# Altium footprint library TQFP贴片芯片.PcbLib: 17 footprints (part 1 of 2)
Each footprint in its own frame and in the unit in brackets; x right, y up, seen from the top. Pads: shape width x height; smd on the part's side, far side on the other; paste and mask are expansions set on the pad; w line width, h text height; cw(c..) or ccw(c..) is an arc to the next point about the centre after c.
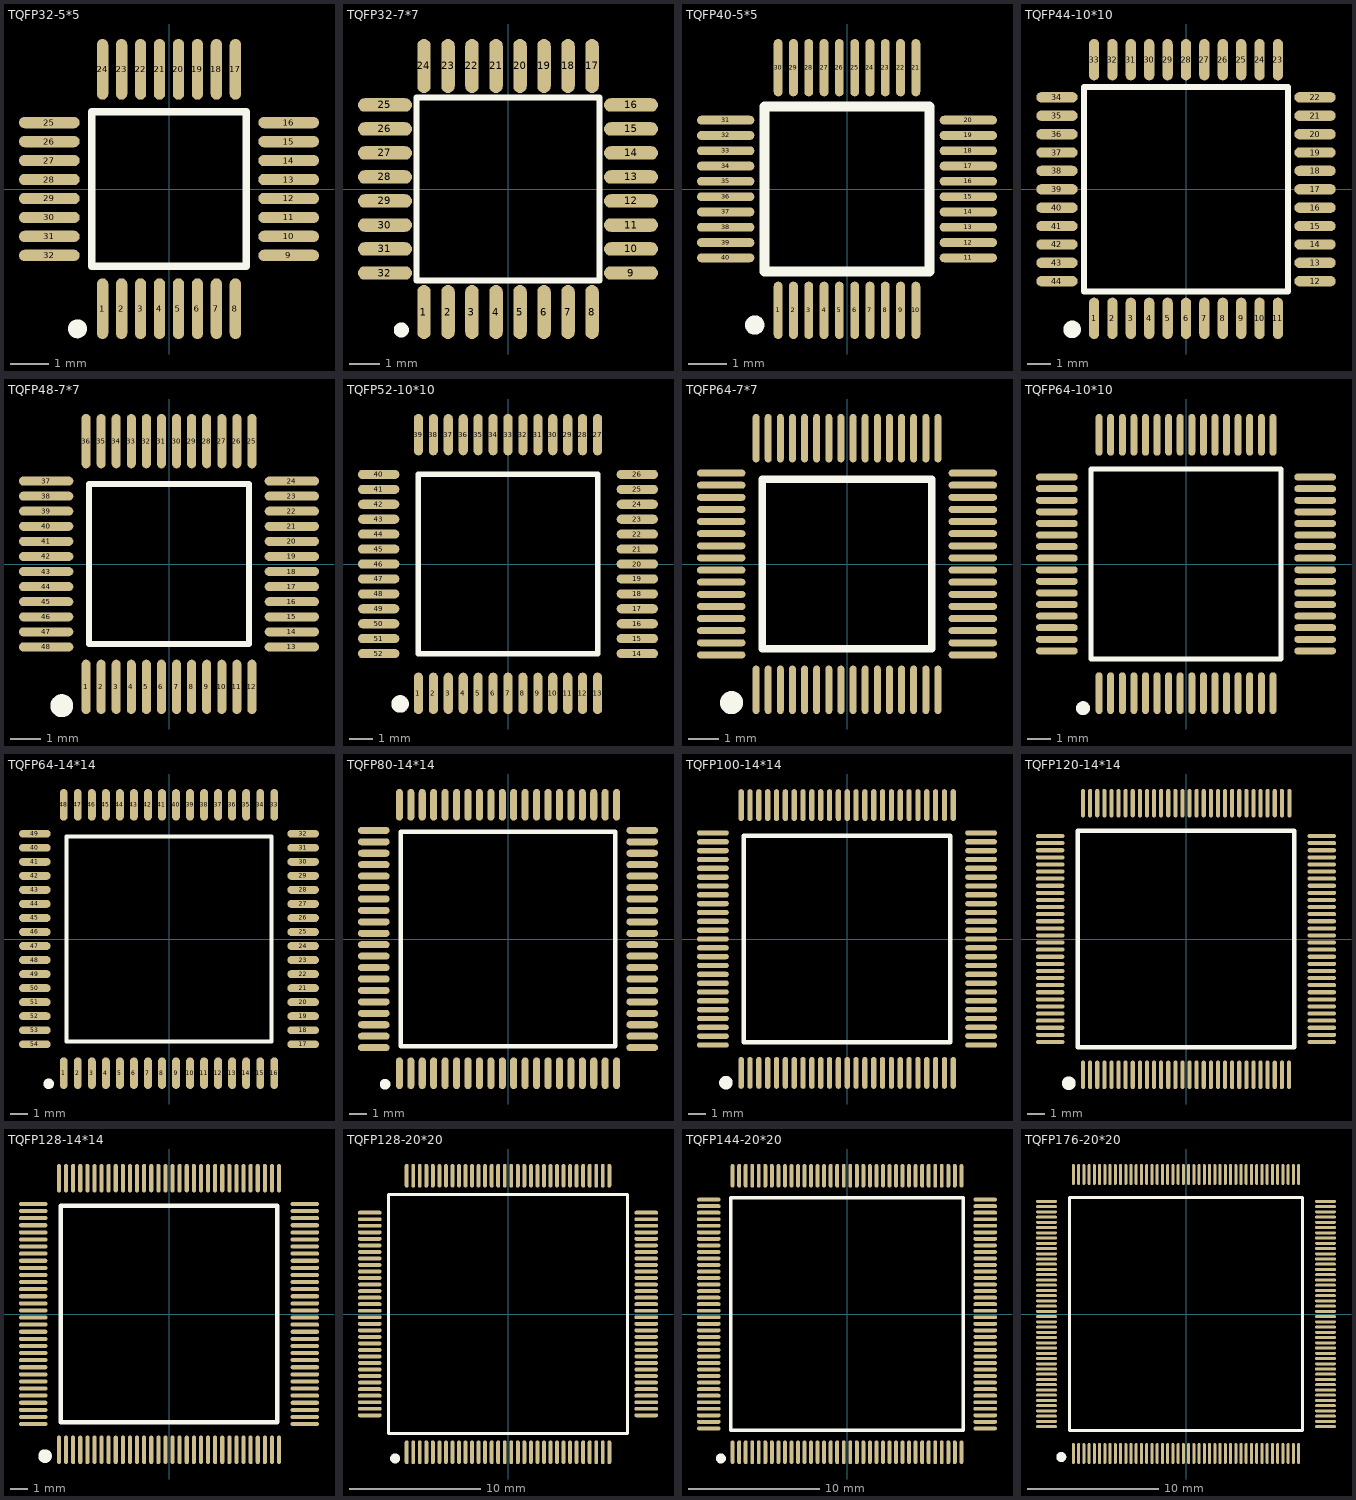
[diagram p0: the footprints below, top view; thin cyan lines are the x and y axes]

## TQFP32-5*5 [mm] "5x5mm, 脚距：0.5mm(蒜米工坊）"
pads (32):
  oval 0.3x1.6 smd: 1(-1.75,-3.152) 2(-1.25,-3.152) 3(-0.75,-3.152) 4(-0.25,-3.152) 5(0.25,-3.152) 6(0.75,-3.152) 7(1.25,-3.152) 8(1.75,-3.152) 17(1.75,3.152) 18(1.25,3.152) 19(0.75,3.152) 20(0.25,3.152) 21(-0.25,3.152) 22(-0.75,3.152) 23(-1.25,3.152) 24(-1.75,3.152)
  oval 1.6x0.3 smd: 9(3.152,-1.75) 10(3.152,-1.25) 11(3.152,-0.75) 12(3.152,-0.25) 13(3.152,0.25) 14(3.152,0.75) 15(3.152,1.25) 16(3.152,1.75) 25(-3.152,1.75) 26(-3.152,1.25) 27(-3.152,0.75) 28(-3.152,0.25) 29(-3.152,-0.25) 30(-3.152,-0.75) 31(-3.152,-1.25) 32(-3.152,-1.75)
Top Overlay:
  circle w0.25: c-2.413,-3.683 r0.125
  lines w0.2: -2.032,-2.032 2.032,-2.032 2.032,2.032 -2.032,2.032 -2.032,-2.032
3D body "TQFP32_5x5.STEP": height 1.05, standoff 0, extent -3.502,-3.502 3.502,3.502

## TQFP32-7*7 [mm] "7x7mm, 0.8mm(蒜米工坊）"
pads (32):
  oval 0.45x1.8 smd: 1(-2.803,-4.1) 2(-2.003,-4.1) 3(-1.203,-4.1) 4(-0.403,-4.1) 5(0.397,-4.1) 6(1.197,-4.1) 7(1.997,-4.1) 8(2.797,-4.1) 17(2.797,4.1) 18(1.997,4.1) 19(1.197,4.1) 20(0.397,4.1) 21(-0.403,4.1) 22(-1.203,4.1) 23(-2.003,4.1) 24(-2.803,4.1)
  oval 1.8x0.45 smd: 9(4.097,-2.8) 10(4.097,-2) 11(4.097,-1.2) 12(4.097,-0.4) 13(4.097,0.4) 14(4.097,1.2) 15(4.097,2) 16(4.097,2.8) 25(-4.103,2.8) 26(-4.103,2) 27(-4.103,1.2) 28(-4.103,0.4) 29(-4.103,-0.4) 30(-4.103,-1.2) 31(-4.103,-2) 32(-4.103,-2.8)
Top Overlay:
  circle w0.25: c-3.556,-4.699 r0.125
  lines w0.2: -3.048,-3.048 -3.048,3.048 3.048,3.048 3.048,-3.048 -3.048,-3.048
3D body "TQFP32_7x7.STEP": height 1.05, standoff 0, extent -4.502,-4.502 4.502,4.502

## TQFP40-5*5 [mm] "5x5mm, 0.4mm(蒜米工坊）"
pads (40):
  oval 0.23x1.5 smd: 1(-1.8,-3.171) 2(-1.4,-3.171) 3(-1,-3.171) 4(-0.6,-3.171) 5(-0.2,-3.171) 6(0.2,-3.171) 7(0.6,-3.171) 8(1,-3.171) 9(1.4,-3.171) 10(1.8,-3.171) 21(1.8,3.171) 22(1.4,3.171) 23(1,3.171) 24(0.6,3.171) 25(0.2,3.171) 26(-0.2,3.171) 27(-0.6,3.171) 28(-1,3.171) 29(-1.4,3.171) 30(-1.8,3.171)
  oval 1.5x0.23 smd: 11(3.171,-1.8) 12(3.171,-1.4) 13(3.171,-1) 14(3.171,-0.6) 15(3.171,-0.2) 16(3.171,0.2) 17(3.171,0.6) 18(3.171,1) 19(3.171,1.4) 20(3.171,1.8) 31(-3.171,1.8) 32(-3.171,1.4) 33(-3.171,1) 34(-3.171,0.6) 35(-3.171,0.2) 36(-3.171,-0.2) 37(-3.171,-0.6) 38(-3.171,-1) 39(-3.171,-1.4) 40(-3.171,-1.8)
Top Overlay:
  circle w0.254: c-2.413,-3.556 r0.127
  lines w0.254: -2.159,-2.159 -2.159,2.159 2.159,2.159 2.159,-2.159 -2.159,-2.159
3D body "TQFP40_5x5.STEP": height 1.05, standoff 0, extent -3.502,-3.502 3.502,3.502

## TQFP44-10*10 [mm] "10x10mm, 0.8mm(蒜米工坊）"
pads (44):
  oval 0.45x1.8 smd: 1(-4,-5.613) 2(-3.2,-5.613) 3(-2.4,-5.613) 4(-1.6,-5.613) 5(-0.8,-5.613) 6(0,-5.613) 7(0.8,-5.613) 8(1.6,-5.613) 9(2.4,-5.613) 10(3.2,-5.613) 11(4,-5.613) 23(4,5.639) 24(3.2,5.639) 25(2.4,5.639) 26(1.6,5.639) 27(0.8,5.639) 28(0,5.639) 29(-0.8,5.639) 30(-1.6,5.639) 31(-2.4,5.639) 32(-3.2,5.639) 33(-4,5.639)
  oval 1.8x0.45 smd: 12(5.613,-4) 13(5.613,-3.2) 14(5.613,-2.4) 15(5.613,-1.6) 16(5.613,-0.8) 17(5.613,0) 18(5.613,0.8) 19(5.613,1.6) 20(5.613,2.4) 21(5.613,3.2) 22(5.613,4) 34(-5.613,4) 35(-5.613,3.2) 36(-5.613,2.4) 37(-5.613,1.6) 38(-5.613,0.8) 39(-5.613,0) 40(-5.613,-0.8) 41(-5.613,-1.6) 42(-5.613,-2.4) 43(-5.613,-3.2) 44(-5.613,-4)
Top Overlay:
  circle w0.508: c-4.953,-6.096 r0.127
  lines w0.254: -4.445,-4.445 -4.445,4.445 4.445,4.445 4.445,-4.445 -4.445,-4.445
3D body "TQFP44_10x10.STEP": height 1.05, standoff 0, extent -6.002,-6.002 6.002,6.002

## TQFP48-7*7 [mm] "7x7mm, 0.5mm(蒜米工坊）"
pads (48):
  oval 0.3x1.8 smd: 1(-2.75,-4.073) 2(-2.25,-4.073) 3(-1.75,-4.073) 4(-1.25,-4.073) 5(-0.75,-4.073) 6(-0.25,-4.073) 7(0.25,-4.073) 8(0.75,-4.073) 9(1.25,-4.073) 10(1.75,-4.073) 11(2.25,-4.073) 12(2.75,-4.073) 25(2.75,4.073) 26(2.25,4.073) 27(1.75,4.073) 28(1.25,4.073) 29(0.75,4.073) 30(0.25,4.073) 31(-0.25,4.073) 32(-0.75,4.073) 33(-1.25,4.073) 34(-1.75,4.073) 35(-2.25,4.073) 36(-2.75,4.073)
  oval 1.8x0.3 smd: 13(4.073,-2.75) 14(4.073,-2.25) 15(4.073,-1.75) 16(4.073,-1.25) 17(4.073,-0.75) 18(4.073,-0.25) 19(4.073,0.25) 20(4.073,0.75) 21(4.073,1.25) 22(4.073,1.75) 23(4.073,2.25) 24(4.073,2.75) 37(-4.073,2.75) 38(-4.073,2.25) 39(-4.073,1.75) 40(-4.073,1.25) 41(-4.073,0.75) 42(-4.073,0.25) 43(-4.073,-0.25) 44(-4.073,-0.75) 45(-4.073,-1.25) 46(-4.073,-1.75) 47(-4.073,-2.25) 48(-4.073,-2.75)
Top Overlay:
  circle w0.508: c-3.556,-4.699 r0.127
  lines w0.2: -2.65,-2.65 2.65,-2.65 2.65,2.65 -2.65,2.65 -2.65,-2.65
3D body "TQFP48_7x7.STEP": height 1.05, standoff 0, extent -4.502,-4.502 4.502,4.502

## TQFP52-10*10 [mm] "10x10mm, 0.65mm(蒜米工坊）"
pads (52):
  oval 0.4x1.8 smd: 1(-3.9,-5.632) 2(-3.25,-5.632) 3(-2.6,-5.632) 4(-1.95,-5.632) 5(-1.3,-5.632) 6(-0.65,-5.632) 7(0,-5.632) 8(0.65,-5.632) 9(1.3,-5.632) 10(1.95,-5.632) 11(2.6,-5.632) 12(3.25,-5.632) 13(3.9,-5.632) 27(3.9,5.632) 28(3.25,5.632) 29(2.6,5.632) 30(1.95,5.632) 31(1.3,5.632) 32(0.65,5.632) 33(0,5.632) 34(-0.65,5.632) 35(-1.3,5.632) 36(-1.95,5.632) 37(-2.6,5.632) 38(-3.25,5.632) 39(-3.9,5.632)
  oval 1.8x0.4 smd: 14(5.632,-3.9) 15(5.632,-3.25) 16(5.632,-2.6) 17(5.632,-1.95) 18(5.632,-1.3) 19(5.632,-0.65) 20(5.632,0) 21(5.632,0.65) 22(5.632,1.3) 23(5.632,1.95) 24(5.632,2.6) 25(5.632,3.25) 26(5.632,3.9) 40(-5.632,3.9) 41(-5.632,3.25) 42(-5.632,2.6) 43(-5.632,1.95) 44(-5.632,1.3) 45(-5.632,0.65) 46(-5.632,0) 47(-5.632,-0.65) 48(-5.632,-1.3) 49(-5.632,-1.95) 50(-5.632,-2.6) 51(-5.632,-3.25) 52(-5.632,-3.9)
Top Overlay:
  circle w0.508: c-4.699,-6.096 r0.127
  lines w0.254: -3.912,-3.912 3.912,-3.912 3.912,3.912 -3.912,3.912 -3.912,-3.912
3D body "TQFP52_10x10.STEP": height 1.05, standoff 0, extent -6.002,-6.002 6.002,6.002

## TQFP64-7*7 [mm] "7x7mm, 0.4mm(蒜米工坊）"
pads (64):
  oval 0.23x1.6 smd: 1(-3,-4.146) 2(-2.6,-4.146) 3(-2.2,-4.146) 4(-1.8,-4.146) 5(-1.4,-4.146) 6(-1,-4.146) 7(-0.6,-4.146) 8(-0.2,-4.146) 9(0.2,-4.146) 10(0.6,-4.146) 11(1,-4.146) 12(1.4,-4.146) 13(1.8,-4.146) 14(2.2,-4.146) 15(2.6,-4.146) 16(3,-4.146) 33(3,4.152) 34(2.6,4.152) 35(2.2,4.152) 36(1.8,4.152) 37(1.4,4.152) 38(1,4.152) 39(0.6,4.152) 40(0.2,4.152) 41(-0.2,4.152) 42(-0.6,4.152) 43(-1,4.152) 44(-1.4,4.152) 45(-1.8,4.152) 46(-2.2,4.152) 47(-2.6,4.152) 48(-3,4.152)
  oval 1.6x0.23 smd: 17(4.149,-2.997) 18(4.149,-2.597) 19(4.149,-2.197) 20(4.149,-1.797) 21(4.149,-1.397) 22(4.149,-0.997) 23(4.149,-0.597) 24(4.149,-0.197) 25(4.149,0.203) 26(4.149,0.603) 27(4.149,1.003) 28(4.149,1.403) 29(4.149,1.803) 30(4.149,2.203) 31(4.149,2.603) 32(4.149,3.003) 49(-4.149,3.003) 50(-4.149,2.603) 51(-4.149,2.203) 52(-4.149,1.803) 53(-4.149,1.403) 54(-4.149,1.003) 55(-4.149,0.603) 56(-4.149,0.203) 57(-4.149,-0.197) 58(-4.149,-0.597) 59(-4.149,-0.997) 60(-4.149,-1.397) 61(-4.149,-1.797) 62(-4.149,-2.197) 63(-4.149,-2.597) 64(-4.149,-2.997)
Top Overlay:
  circle w0.508: c-3.81,-4.572 r0.127
  lines w0.254: -2.794,-2.791 2.794,-2.791 2.794,2.797 -2.794,2.797 -2.794,-2.791
3D body "TQFP64_7x7.STEP": height 1.05, standoff 0, extent -4.502,-4.502 4.502,4.502

## TQFP64-10*10 [mm] "10x10mm, 0.5mm(蒜米工坊）"
pads (64):
  oval 0.3x1.8 smd: 1(-3.75,-5.574) 2(-3.25,-5.574) 3(-2.75,-5.574) 4(-2.25,-5.574) 5(-1.75,-5.574) 6(-1.25,-5.574) 7(-0.75,-5.574) 8(-0.25,-5.574) 9(0.25,-5.574) 10(0.75,-5.574) 11(1.25,-5.574) 12(1.75,-5.574) 13(2.25,-5.574) 14(2.75,-5.574) 15(3.25,-5.574) 16(3.75,-5.574) 33(3.75,5.574) 34(3.25,5.574) 35(2.75,5.574) 36(2.25,5.574) 37(1.75,5.574) 38(1.25,5.574) 39(0.75,5.574) 40(0.25,5.574) 41(-0.25,5.574) 42(-0.75,5.574) 43(-1.25,5.574) 44(-1.75,5.574) 45(-2.25,5.574) 46(-2.75,5.574) 47(-3.25,5.574) 48(-3.75,5.574)
  oval 1.8x0.3 smd: 17(5.574,-3.75) 18(5.574,-3.25) 19(5.574,-2.75) 20(5.574,-2.25) 21(5.574,-1.75) 22(5.574,-1.25) 23(5.574,-0.75) 24(5.574,-0.25) 25(5.574,0.25) 26(5.574,0.75) 27(5.574,1.25) 28(5.574,1.75) 29(5.574,2.25) 30(5.574,2.75) 31(5.574,3.25) 32(5.574,3.75) 49(-5.574,3.75) 50(-5.574,3.25) 51(-5.574,2.75) 52(-5.574,2.25) 53(-5.574,1.75) 54(-5.574,1.25) 55(-5.574,0.75) 56(-5.574,0.25) 57(-5.574,-0.25) 58(-5.574,-0.75) 59(-5.574,-1.25) 60(-5.574,-1.75) 61(-5.574,-2.25) 62(-5.574,-2.75) 63(-5.574,-3.25) 64(-5.574,-3.75)
Top Overlay:
  circle w0.35: c-4.445,-6.223 r0.125
  lines w0.2: -4.1,-4.1 -4.1,4.1 4.1,4.1 4.1,-4.1 -4.1,-4.1
3D body "TQFP64_10x10.STEP": height 1.05, standoff 0, extent -6.002,-6.002 6.002,6.002

## TQFP64-14*14 [mm] "14x14mm, 0.8mm(蒜米工坊）"
pads (64):
  oval 0.45x1.8 smd: 1(-6,-7.651) 2(-5.2,-7.651) 3(-4.4,-7.651) 4(-3.6,-7.651) 5(-2.8,-7.651) 6(-2,-7.651) 7(-1.2,-7.651) 8(-0.4,-7.651) 9(0.4,-7.651) 10(1.2,-7.651) 11(2,-7.651) 12(2.8,-7.651) 13(3.6,-7.651) 14(4.4,-7.651) 15(5.2,-7.651) 16(6,-7.651) 33(6,7.651) 34(5.2,7.651) 35(4.4,7.651) 36(3.6,7.651) 37(2.8,7.651) 38(2,7.651) 39(1.2,7.651) 40(0.4,7.651) 41(-0.4,7.651) 42(-1.2,7.651) 43(-2,7.651) 44(-2.8,7.651) 45(-3.6,7.651) 46(-4.4,7.651) 47(-5.2,7.651) 48(-6,7.651)
  oval 1.8x0.45 smd: 17(7.651,-6) 18(7.651,-5.2) 19(7.651,-4.4) 20(7.651,-3.6) 21(7.651,-2.8) 22(7.651,-2) 23(7.651,-1.2) 24(7.651,-0.4) 25(7.651,0.4) 26(7.651,1.2) 27(7.651,2) 28(7.651,2.8) 29(7.651,3.6) 30(7.651,4.4) 31(7.651,5.2) 32(7.651,6) 40(-7.651,5.2) 41(-7.651,4.4) 42(-7.651,3.6) 43(-7.651,2.8) 44(-7.651,2) 45(-7.651,1.2) 46(-7.651,0.4) 47(-7.651,-0.4) 48(-7.651,-1.2) 49(-7.651,-2) 49(-7.651,6) 50(-7.651,-2.8) 51(-7.651,-3.6) 52(-7.651,-4.4) 53(-7.651,-5.2) 54(-7.651,-6)
Top Overlay:
  circle w0.35: c-6.858,-8.255 r0.125
  lines w0.254: -5.842,-5.842 -5.842,5.842 5.842,5.842 5.842,-5.842 -5.842,-5.842
3D body "TQFP64_14x14.STEP": height 1.05, standoff 0, extent -8.002,-8.002 8.002,8.002

## TQFP80-14*14 [mm] "14x14mm, 0.65mm(蒜米工坊）"
pads (80):
  oval 0.4x1.8 smd: 1(-6.175,-7.625) 2(-5.525,-7.625) 3(-4.875,-7.625) 4(-4.225,-7.625) 5(-3.575,-7.625) 6(-2.925,-7.625) 7(-2.275,-7.625) 8(-1.625,-7.625) 9(-0.975,-7.625) 10(-0.325,-7.625) 11(0.325,-7.625) 12(0.975,-7.625) 13(1.625,-7.625) 14(2.275,-7.625) 15(2.925,-7.625) 16(3.575,-7.625) 17(4.225,-7.625) 18(4.875,-7.625) 19(5.525,-7.625) 20(6.175,-7.625) 41(6.175,7.63) 42(5.525,7.63) 43(4.875,7.63) 44(4.225,7.63) 45(3.575,7.63) 46(2.925,7.63) 47(2.275,7.63) 48(1.625,7.63) 49(0.975,7.63) 50(0.325,7.63) 51(-0.325,7.63) 52(-0.975,7.63) 53(-1.625,7.63) 54(-2.275,7.63) 55(-2.925,7.63) 56(-3.575,7.63) 57(-4.225,7.63) 58(-4.875,7.63) 59(-5.525,7.63) 60(-6.175,7.63)
  oval 1.8x0.4 smd: 21(7.627,-6.172) 22(7.627,-5.522) 23(7.627,-4.872) 24(7.627,-4.222) 25(7.627,-3.572) 26(7.627,-2.922) 27(7.627,-2.272) 28(7.627,-1.622) 29(7.627,-0.972) 30(7.627,-0.322) 31(7.627,0.328) 32(7.627,0.978) 33(7.627,1.628) 34(7.627,2.278) 35(7.627,2.928) 36(7.627,3.578) 37(7.627,4.228) 38(7.627,4.878) 39(7.627,5.528) 40(7.627,6.178) 61(-7.627,6.178) 62(-7.627,5.528) 63(-7.627,4.878) 64(-7.627,4.228) 65(-7.627,3.578) 66(-7.627,2.928) 67(-7.627,2.278) 68(-7.627,1.628) 69(-7.627,0.978) 70(-7.627,0.328) 71(-7.627,-0.322) 72(-7.627,-0.972) 73(-7.627,-1.622) 74(-7.627,-2.272) 75(-7.627,-2.922) 76(-7.627,-3.572) 77(-7.627,-4.222) 78(-7.627,-4.872) 79(-7.627,-5.522) 80(-7.627,-6.172)
Top Overlay:
  circle w0.35: c-6.985,-8.255 r0.125
  lines w0.254: -6.096,-6.096 6.096,-6.096 6.096,6.096 -6.096,6.096 -6.096,-6.096
3D body "TQFP80_14x14.STEP": height 1.05, standoff 0, extent -8.002,-8.002 8.002,8.002

## TQFP100-14*14 [mm] "14x14mm, 0.5mm(蒜米工坊）"
pads (100):
  oval 0.3x1.8 smd: 1(-5.995,-7.575) 2(-5.495,-7.575) 3(-4.995,-7.575) 4(-4.495,-7.575) 5(-3.995,-7.575) 6(-3.495,-7.575) 7(-2.995,-7.575) 8(-2.495,-7.575) 9(-1.995,-7.575) 10(-1.495,-7.575) 11(-0.995,-7.575) 12(-0.495,-7.575) 13(0.005,-7.575) 14(0.505,-7.575) 15(1.005,-7.575) 16(1.505,-7.575) 17(2.005,-7.575) 18(2.505,-7.575) 19(3.005,-7.575) 20(3.505,-7.575) 21(4.005,-7.575) 22(4.505,-7.575) 23(5.005,-7.575) 24(5.505,-7.575) 25(6.005,-7.575) 51(6.005,7.575) 52(5.505,7.575) 53(5.005,7.575) 54(4.505,7.575) 55(4.005,7.575) 56(3.505,7.575) 57(3.005,7.575) 58(2.505,7.575) 59(2.005,7.575) 60(1.505,7.575) 61(1.005,7.575) 62(0.505,7.575) 63(0.005,7.575) 64(-0.495,7.575) 65(-0.995,7.575) 66(-1.495,7.575) 67(-1.995,7.575) 68(-2.495,7.575) 69(-2.995,7.575) 70(-3.495,7.575) 71(-3.995,7.575) 72(-4.495,7.575) 73(-4.995,7.575) 74(-5.495,7.575) 75(-5.995,7.575)
  oval 1.8x0.3 smd: 26(7.58,-6) 27(7.58,-5.5) 28(7.58,-5) 29(7.58,-4.5) 30(7.58,-4) 31(7.58,-3.5) 32(7.58,-3) 33(7.58,-2.5) 34(7.58,-2) 35(7.58,-1.5) 36(7.58,-1) 37(7.58,-0.5) 38(7.58,0) 39(7.58,0.5) 40(7.58,1) 41(7.58,1.5) 42(7.58,2) 43(7.58,2.5) 44(7.58,3) 45(7.58,3.5) 46(7.58,4) 47(7.58,4.5) 48(7.58,5) 49(7.58,5.5) 50(7.58,6) 76(-7.595,6) 77(-7.595,5.5) 78(-7.595,5) 79(-7.595,4.5) 80(-7.595,4) 81(-7.595,3.5) 82(-7.595,3) 83(-7.595,2.5) 84(-7.595,2) 85(-7.595,1.5) 86(-7.595,1) 87(-7.595,0.5) 88(-7.595,0) 89(-7.595,-0.5) 90(-7.595,-1) 91(-7.595,-1.5) 92(-7.595,-2) 93(-7.595,-2.5) 94(-7.595,-3) 95(-7.595,-3.5) 96(-7.595,-4) 97(-7.595,-4.5) 98(-7.595,-5) 99(-7.595,-5.5) 100(-7.595,-6)
Top Overlay:
  circle w0.508: c-6.858,-8.128 r0.127
  lines w0.254: -5.837,-5.842 -5.837,5.842 5.847,5.842 5.847,-5.842 -5.837,-5.842
3D body "TQFP100_14x14.STEP": height 1.05, standoff 0, extent -8.002,-8.002 8.002,8.002

## TQFP120-14*14 [mm] "14x14mm, 0.4mm(蒜米工坊）"
pads (120):
  oval 0.23x1.6 smd: 1(-5.8,-7.651) 2(-5.4,-7.651) 3(-5,-7.651) 4(-4.6,-7.651) 5(-4.2,-7.651) 6(-3.8,-7.651) 7(-3.4,-7.651) 8(-3,-7.651) 9(-2.6,-7.651) 10(-2.2,-7.651) 11(-1.8,-7.651) 12(-1.4,-7.651) 13(-1,-7.651) 14(-0.6,-7.651) 15(-0.2,-7.651) 16(0.2,-7.651) 17(0.6,-7.651) 18(1,-7.651) 19(1.4,-7.651) 20(1.8,-7.651) 21(2.2,-7.651) 22(2.6,-7.651) 23(3,-7.651) 24(3.4,-7.651) 25(3.8,-7.651) 26(4.2,-7.651) 27(4.6,-7.651) 28(5,-7.651) 29(5.4,-7.651) 30(5.8,-7.651) 61(5.825,7.651) 62(5.4,7.651) 63(5,7.651) 64(4.6,7.651) 65(4.2,7.651) 66(3.8,7.651) 67(3.4,7.651) 68(3,7.651) 69(2.6,7.651) 70(2.2,7.651) 71(1.8,7.651) 72(1.4,7.651) 73(1,7.651) 74(0.6,7.651) 75(0.2,7.651) 76(-0.2,7.651) 77(-0.6,7.651) 78(-1,7.651) 79(-1.4,7.651) 80(-1.8,7.651) 81(-2.2,7.651) 82(-2.6,7.651) 83(-3,7.651) 84(-3.4,7.651) 85(-3.8,7.651) 86(-4.2,7.651) 87(-4.6,7.651) 88(-5,7.651) 89(-5.4,7.651) 90(-5.8,7.651)
  oval 1.6x0.23 smd: 31(7.651,-5.8) 32(7.651,-5.4) 33(7.651,-5) 34(7.651,-4.6) 35(7.651,-4.2) 36(7.651,-3.8) 37(7.651,-3.4) 38(7.651,-3) 39(7.651,-2.6) 40(7.651,-2.2) 41(7.651,-1.8) 42(7.651,-1.4) 43(7.651,-1) 44(7.651,-0.6) 45(7.651,-0.2) 46(7.651,0.2) 47(7.651,0.6) 48(7.651,1) 49(7.651,1.4) 50(7.651,1.8) 51(7.651,2.2) 52(7.651,2.6) 53(7.651,3) 54(7.651,3.4) 55(7.651,3.8) 56(7.651,4.2) 57(7.651,4.6) 58(7.651,5) 59(7.651,5.4) 60(7.651,5.8) 91(-7.651,5.8) 92(-7.651,5.4) 93(-7.651,5) 94(-7.651,4.6) 95(-7.651,4.2) 96(-7.651,3.8) 97(-7.651,3.4) 98(-7.651,3) 99(-7.651,2.6) 100(-7.651,2.2) 101(-7.651,1.8) 102(-7.651,1.4) 103(-7.651,1) 104(-7.651,0.6) 105(-7.651,0.2) 106(-7.651,-0.2) 107(-7.651,-0.6) 108(-7.651,-1) 109(-7.651,-1.4) 110(-7.651,-1.8) 111(-7.651,-2.2) 112(-7.651,-2.6) 113(-7.651,-3) 114(-7.651,-3.4) 115(-7.651,-3.8) 116(-7.651,-4.2) 117(-7.651,-4.6) 118(-7.651,-5) 119(-7.651,-5.4) 120(-7.651,-5.8)
Top Overlay:
  circle w0.508: c-6.604,-8.128 r0.127
  lines w0.254: -6.096,-6.096 -6.096,6.096 6.096,6.096 6.096,-6.096 -6.096,-6.096
3D body "TQFP120_14x14.STEP": height 1.05, standoff 0, extent -8.002,-8.002 8.002,8.002

## TQFP128-14*14 [mm] "14x14mm, 0.4mm(蒜米工坊）"
pads (128):
  oval 0.23x1.6 smd: 1(-6.2,-7.648) 2(-5.8,-7.648) 3(-5.4,-7.648) 4(-5,-7.648) 5(-4.6,-7.648) 6(-4.2,-7.648) 7(-3.8,-7.648) 8(-3.4,-7.648) 9(-3,-7.648) 10(-2.6,-7.648) 11(-2.2,-7.648) 12(-1.8,-7.648) 13(-1.4,-7.648) 14(-1,-7.648) 15(-0.6,-7.648) 16(-0.2,-7.648) 17(0.2,-7.648) 18(0.6,-7.648) 19(1,-7.648) 20(1.4,-7.648) 21(1.8,-7.648) 22(2.2,-7.648) 23(2.6,-7.648) 24(3,-7.648) 25(3.4,-7.648) 26(3.8,-7.648) 27(4.2,-7.648) 28(4.6,-7.648) 29(5,-7.648) 30(5.4,-7.648) 31(5.8,-7.648) 32(6.2,-7.648) 65(6.2,7.653) 66(5.8,7.653) 67(5.4,7.653) 68(5,7.653) 69(4.6,7.653) 70(4.2,7.653) 71(3.8,7.653) 72(3.4,7.653) 73(3,7.653) 74(2.6,7.653) 75(2.2,7.653) 76(1.8,7.653) 77(1.4,7.653) 78(1,7.653) 79(0.6,7.653) 80(0.2,7.653) 81(-0.2,7.653) 82(-0.6,7.653) 83(-1,7.653) 84(-1.4,7.653) 85(-1.8,7.653) 86(-2.2,7.653) 87(-2.6,7.653) 88(-3,7.653) 89(-3.4,7.653) 90(-3.8,7.653) 91(-4.2,7.653) 92(-4.6,7.653) 93(-5,7.653) 94(-5.4,7.653) 95(-5.8,7.653) 96(-6.2,7.653)
  oval 1.6x0.23 smd: 33(7.651,-6.198) 34(7.651,-5.798) 35(7.651,-5.398) 36(7.651,-4.998) 37(7.651,-4.598) 38(7.651,-4.198) 39(7.651,-3.798) 40(7.651,-3.398) 41(7.651,-2.998) 42(7.651,-2.598) 43(7.651,-2.198) 44(7.651,-1.798) 45(7.651,-1.398) 46(7.651,-0.998) 47(7.651,-0.598) 48(7.651,-0.198) 49(7.651,0.202) 50(7.651,0.602) 51(7.651,1.002) 52(7.651,1.402) 53(7.651,1.802) 54(7.651,2.202) 55(7.651,2.602) 56(7.651,3.002) 57(7.651,3.402) 58(7.651,3.802) 59(7.651,4.202) 60(7.651,4.602) 61(7.651,5.002) 62(7.651,5.402) 63(7.651,5.802) 64(7.651,6.202) 97(-7.651,6.202) 98(-7.651,5.802) 99(-7.651,5.402) 100(-7.651,5.002) 101(-7.651,4.602) 102(-7.651,4.202) 103(-7.651,3.802) 104(-7.651,3.402) 105(-7.651,3.002) 106(-7.651,2.602) 107(-7.651,2.202) 108(-7.651,1.802) 109(-7.651,1.402) 110(-7.651,1.002) 111(-7.651,0.602) 112(-7.651,0.202) 113(-7.651,-0.198) 114(-7.651,-0.598) 115(-7.651,-0.998) 116(-7.651,-1.398) 117(-7.651,-1.798) 118(-7.651,-2.198) 119(-7.651,-2.598) 120(-7.651,-2.998) 121(-7.651,-3.398) 122(-7.651,-3.798) 123(-7.651,-4.198) 124(-7.651,-4.598) 125(-7.651,-4.998) 126(-7.651,-5.398) 127(-7.651,-5.798) 128(-7.651,-6.198)
Top Overlay:
  circle w0.508: c-6.985,-8.001 r0.127
  lines w0.254: -6.096,-6.094 -6.096,6.098 6.096,6.098 6.096,-6.094 -6.096,-6.094
3D body "TQFP128_14x14.STEP": height 1.05, standoff 0, extent -8.002,-8.002 8.002,8.002

## TQFP128-20*20 [mm] "20x20mm, 0.5mm(蒜米工坊）"
pads (128):
  oval 0.3x1.8 smd: 1(-7.75,-10.576) 2(-7.25,-10.576) 3(-6.75,-10.576) 4(-6.25,-10.576) 5(-5.75,-10.576) 6(-5.25,-10.576) 7(-4.75,-10.576) 8(-4.25,-10.576) 9(-3.75,-10.576) 10(-3.25,-10.576) 11(-2.75,-10.576) 12(-2.25,-10.576) 13(-1.75,-10.576) 14(-1.25,-10.576) 15(-0.75,-10.576) 16(-0.25,-10.576) 17(0.25,-10.576) 18(0.75,-10.576) 19(1.25,-10.576) 20(1.75,-10.576) 21(2.25,-10.576) 22(2.75,-10.576) 23(3.25,-10.576) 24(3.75,-10.576) 25(4.25,-10.576) 26(4.75,-10.576) 27(5.25,-10.576) 28(5.75,-10.576) 29(6.25,-10.576) 30(6.75,-10.576) 31(7.25,-10.576) 32(7.75,-10.576) 65(7.75,10.576) 66(7.25,10.576) 67(6.75,10.576) 68(6.25,10.576) 69(5.75,10.576) 70(5.25,10.576) 71(4.75,10.576) 72(4.25,10.576) 73(3.75,10.576) 74(3.25,10.576) 75(2.75,10.576) 76(2.25,10.576) 77(1.75,10.576) 78(1.25,10.576) 79(0.75,10.576) 80(0.25,10.576) 81(-0.25,10.576) 82(-0.75,10.576) 83(-1.25,10.576) 84(-1.75,10.576) 85(-2.25,10.576) 86(-2.75,10.576) 87(-3.25,10.576) 88(-3.75,10.576) 89(-4.25,10.576) 90(-4.75,10.576) 91(-5.25,10.576) 92(-5.75,10.576) 93(-6.25,10.576) 94(-6.75,10.576) 95(-7.25,10.576) 96(-7.75,10.576)
  oval 1.8x0.3 smd: 33(10.576,-7.75) 34(10.576,-7.25) 35(10.576,-6.75) 36(10.576,-6.25) 37(10.576,-5.75) 38(10.576,-5.25) 39(10.576,-4.75) 40(10.576,-4.25) 41(10.576,-3.75) 42(10.576,-3.25) 43(10.576,-2.75) 44(10.576,-2.25) 45(10.576,-1.75) 46(10.576,-1.25) 47(10.576,-0.75) 48(10.576,-0.25) 49(10.576,0.25) 50(10.576,0.75) 51(10.576,1.25) 52(10.576,1.75) 53(10.576,2.25) 54(10.576,2.75) 55(10.576,3.25) 56(10.576,3.75) 57(10.576,4.25) 58(10.576,4.75) 59(10.576,5.25) 60(10.576,5.75) 61(10.576,6.25) 62(10.576,6.75) 63(10.576,7.25) 64(10.576,7.75) 97(-10.576,7.75) 98(-10.576,7.25) 99(-10.576,6.75) 100(-10.576,6.25) 101(-10.576,5.75) 102(-10.576,5.25) 103(-10.576,4.75) 104(-10.576,4.25) 105(-10.576,3.75) 106(-10.576,3.25) 107(-10.576,2.75) 108(-10.576,2.25) 109(-10.576,1.75) 110(-10.576,1.25) 111(-10.576,0.75) 112(-10.576,0.25) 113(-10.576,-0.25) 114(-10.576,-0.75) 115(-10.576,-1.25) 116(-10.576,-1.75) 117(-10.576,-2.25) 118(-10.576,-2.75) 119(-10.576,-3.25) 120(-10.576,-3.75) 121(-10.576,-4.25) 122(-10.576,-4.75) 123(-10.576,-5.25) 124(-10.576,-5.75) 125(-10.576,-6.25) 126(-10.576,-6.75) 127(-10.576,-7.25) 128(-10.576,-7.75)
Top Overlay:
  circle w0.508: c-8.636,-11.049 r0.127
  lines w0.254: -9.144,-9.144 9.144,-9.144 9.144,9.144 -9.144,9.144 -9.144,-9.144
3D body "TQFP128_20x20.STEP": height 1.05, standoff 0, extent -11.002,-11.002 11.002,11.002

## TQFP144-20*20 [mm] "20x20mm, 0.5mm(蒜米工坊）"
pads (144):
  oval 0.3x1.8 smd: 1(-8.75,-10.576) 2(-8.25,-10.576) 3(-7.75,-10.576) 4(-7.25,-10.576) 5(-6.75,-10.576) 6(-6.25,-10.576) 7(-5.75,-10.576) 8(-5.25,-10.576) 9(-4.75,-10.576) 10(-4.25,-10.576) 11(-3.75,-10.576) 12(-3.25,-10.576) 13(-2.75,-10.576) 14(-2.25,-10.576) 15(-1.75,-10.576) 16(-1.25,-10.576) 17(-0.75,-10.576) 18(-0.25,-10.576) 19(0.25,-10.576) 20(0.75,-10.576) 21(1.25,-10.576) 22(1.75,-10.576) 23(2.25,-10.576) 24(2.75,-10.576) 25(3.25,-10.576) 26(3.75,-10.576) 27(4.25,-10.576) 28(4.75,-10.576) 29(5.25,-10.576) 30(5.75,-10.576) 31(6.25,-10.576) 32(6.75,-10.576) 33(7.25,-10.576) 34(7.75,-10.576) 35(8.25,-10.576) 36(8.75,-10.576) 73(8.75,10.576) 74(8.25,10.576) 75(7.75,10.576) 76(7.25,10.576) 77(6.75,10.576) 78(6.25,10.576) 79(5.75,10.576) 80(5.25,10.576) 81(4.75,10.576) 82(4.25,10.576) 83(3.75,10.576) 84(3.25,10.576) 85(2.75,10.576) 86(2.25,10.576) 87(1.75,10.576) 88(1.25,10.576) 89(0.75,10.576) 90(0.25,10.576) 91(-0.25,10.576) 92(-0.75,10.576) 93(-1.25,10.576) 94(-1.75,10.576) 95(-2.25,10.576) 96(-2.75,10.576) 97(-3.25,10.576) 98(-3.75,10.576) 99(-4.25,10.576) 100(-4.75,10.576) 101(-5.25,10.576) 102(-5.75,10.576) 103(-6.25,10.576) 104(-6.75,10.576) 105(-7.25,10.576) 106(-7.75,10.576) 107(-8.25,10.576) 108(-8.75,10.576)
  oval 1.8x0.3 smd: 37(10.576,-8.75) 38(10.576,-8.25) 39(10.576,-7.75) 40(10.576,-7.25) 41(10.576,-6.75) 42(10.576,-6.25) 43(10.576,-5.75) 44(10.576,-5.25) 45(10.576,-4.75) 46(10.576,-4.25) 47(10.576,-3.75) 48(10.576,-3.25) 49(10.576,-2.75) 50(10.576,-2.25) 51(10.576,-1.75) 52(10.576,-1.25) 53(10.576,-0.75) 54(10.576,-0.25) 55(10.576,0.25) 56(10.576,0.75) 57(10.576,1.25) 58(10.576,1.75) 59(10.576,2.25) 60(10.576,2.75) 61(10.576,3.25) 62(10.576,3.75) 63(10.576,4.25) 64(10.576,4.75) 65(10.576,5.25) 66(10.576,5.75) 67(10.576,6.25) 68(10.576,6.75) 69(10.576,7.25) 70(10.576,7.75) 71(10.576,8.25) 72(10.576,8.75) 109(-10.576,8.75) 110(-10.576,8.25) 111(-10.576,7.75) 112(-10.576,7.25) 113(-10.576,6.75) 114(-10.576,6.25) 115(-10.576,5.75) 116(-10.576,5.25) 117(-10.576,4.75) 118(-10.576,4.25) 119(-10.576,3.75) 120(-10.576,3.25) 121(-10.576,2.75) 122(-10.576,2.25) 123(-10.576,1.75) 124(-10.576,1.25) 125(-10.576,0.75) 126(-10.576,0.25) 127(-10.576,-0.25) 128(-10.576,-0.75) 129(-10.576,-1.25) 130(-10.576,-1.75) 131(-10.576,-2.25) 132(-10.576,-2.75) 133(-10.576,-3.25) 134(-10.576,-3.75) 135(-10.576,-4.25) 136(-10.576,-4.75) 137(-10.576,-5.25) 138(-10.576,-5.75) 139(-10.576,-6.25) 140(-10.576,-6.75) 141(-10.576,-7.25) 142(-10.576,-7.75) 143(-10.576,-8.25) 144(-10.576,-8.75)
Top Overlay:
  circle w0.508: c-9.652,-11.049 r0.127
  lines w0.254: -8.89,-8.89 8.89,-8.89 8.89,8.89 -8.89,8.89 -8.89,-8.89
3D body "TQFP144_20x20.STEP": height 1.05, standoff 0, extent -11.002,-11.002 11.002,11.002

## TQFP176-20*20 [mm] "20x20mm, 0.4mm(蒜米工坊）"
pads (176):
  oval 0.23x1.6 smd: 1(-8.6,-10.654) 2(-8.2,-10.654) 3(-7.8,-10.654) 4(-7.4,-10.654) 5(-7,-10.654) 6(-6.6,-10.654) 7(-6.2,-10.654) 8(-5.8,-10.654) 9(-5.4,-10.654) 10(-5,-10.654) 11(-4.6,-10.654) 12(-4.2,-10.654) 13(-3.8,-10.654) 14(-3.4,-10.654) 15(-3,-10.654) 16(-2.6,-10.654) 17(-2.2,-10.654) 18(-1.8,-10.654) 19(-1.4,-10.654) 20(-1,-10.654) 21(-0.6,-10.654) 22(-0.2,-10.654) 23(0.2,-10.654) 24(0.6,-10.654) 25(1,-10.654) 26(1.4,-10.654) 27(1.8,-10.654) 28(2.2,-10.654) 29(2.6,-10.654) 30(3,-10.654) 31(3.4,-10.654) 32(3.8,-10.654) 33(4.2,-10.654) 34(4.6,-10.654) 35(5,-10.654) 36(5.4,-10.654) 37(5.8,-10.654) 38(6.2,-10.654) 39(6.6,-10.654) 40(7,-10.654) 41(7.4,-10.654) 42(7.8,-10.654) 43(8.2,-10.654) 44(8.6,-10.654) 89(8.6,10.654) 90(8.2,10.654) 91(7.8,10.654) 92(7.4,10.654) 93(7,10.654) 94(6.6,10.654) 95(6.2,10.654) 96(5.8,10.654) 97(5.4,10.654) 98(5,10.654) 99(4.6,10.654) 100(4.2,10.654) 101(3.8,10.654) 102(3.4,10.654) 103(3,10.654) 104(2.6,10.654) 105(2.2,10.654) 106(1.8,10.654) 107(1.4,10.654) 108(1,10.654) 109(0.6,10.654) 110(0.2,10.654) 111(-0.2,10.654) 112(-0.6,10.654) 113(-1,10.654) 114(-1.4,10.654) 115(-1.8,10.654) 116(-2.2,10.654) 117(-2.6,10.654) 118(-3,10.654) 119(-3.4,10.654) 120(-3.8,10.654) 121(-4.2,10.654) 122(-4.6,10.654) 123(-5,10.654) 124(-5.4,10.654) 125(-5.8,10.654) 126(-6.2,10.654) 127(-6.6,10.654) 128(-7,10.654) 129(-7.4,10.654) 130(-7.8,10.654) 131(-8.2,10.654) 132(-8.6,10.654)
  oval 1.6x0.23 smd: 45(10.654,-8.6) 46(10.654,-8.2) 47(10.654,-7.8) 48(10.654,-7.4) 49(10.654,-7) 50(10.654,-6.6) 51(10.654,-6.2) 52(10.654,-5.8) 53(10.654,-5.4) 54(10.654,-5) 55(10.654,-4.6) 56(10.654,-4.2) 57(10.654,-3.8) 58(10.654,-3.4) 59(10.654,-3) 60(10.654,-2.6) 61(10.654,-2.2) 62(10.654,-1.8) 63(10.654,-1.4) 64(10.654,-1) 65(10.654,-0.6) 66(10.654,-0.2) 67(10.654,0.2) 68(10.654,0.6) 69(10.654,1) 70(10.654,1.4) 71(10.654,1.8) 72(10.654,2.2) 73(10.654,2.6) 74(10.654,3) 75(10.654,3.4) 76(10.654,3.8) 77(10.654,4.2) 78(10.654,4.6) 79(10.654,5) 80(10.654,5.4) 81(10.654,5.8) 82(10.654,6.2) 83(10.654,6.6) 84(10.654,7) 85(10.654,7.4) 86(10.654,7.8) 87(10.654,8.2) 88(10.654,8.6) 133(-10.654,8.6) 134(-10.654,8.2) 135(-10.654,7.8) 136(-10.654,7.4) 137(-10.654,7) 138(-10.654,6.6) 139(-10.654,6.2) 140(-10.654,5.8) 141(-10.654,5.4) 142(-10.654,5) 143(-10.654,4.6) 144(-10.654,4.2) 145(-10.654,3.8) 146(-10.654,3.4) 147(-10.654,3) 148(-10.654,2.6) 149(-10.654,2.2) 150(-10.654,1.8) 151(-10.654,1.4) 152(-10.654,1) 153(-10.654,0.6) 154(-10.654,0.2) 155(-10.654,-0.2) 156(-10.654,-0.6) 157(-10.654,-1) 158(-10.654,-1.4) 159(-10.654,-1.8) 160(-10.654,-2.2) 161(-10.654,-2.6) 162(-10.654,-3) 163(-10.654,-3.4) 164(-10.654,-3.8) 165(-10.654,-4.2) 166(-10.654,-4.6) 167(-10.654,-5) 168(-10.654,-5.4) 169(-10.654,-5.8) 170(-10.654,-6.2) 171(-10.654,-6.6) 172(-10.654,-7) 173(-10.654,-7.4) 174(-10.654,-7.8) 175(-10.654,-8.2) 176(-10.654,-8.6)
Top Overlay:
  circle w0.508: c-9.525,-10.922 r0.127
  lines w0.254: -8.89,-8.89 -8.89,8.89 8.89,8.89 8.89,-8.89 -8.89,-8.89
3D body "TQFP176_20x20.STEP": height 1.05, standoff 0, extent -11.002,-11.002 11.002,11.002